# Altium schematic symbol library DMP3130L-7.Schlib: 1 symbol
Pins are listed as number, name and electrical type; pins without a type are passive.

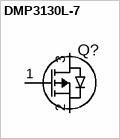
[diagram p0: symbol DMP3130L-7]

## DMP3130L-7
designator Q?
MOSFET P-CH 30V 3.5A SOT-23
pins: 1 G, 2 S, 3 D